# Altium schematic symbol library 3V3LDO_TPS73733DRV.SchLib: 1 symbol
Pins are listed as number, name and electrical type; pins without a type are passive.

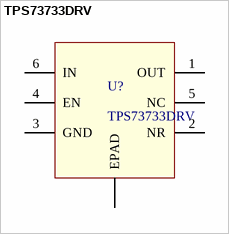
[diagram p0: symbol TPS73733DRV]

## TPS73733DRV
designator U?
IC REG LDO 3.3V 1A 6SON; Supplier 1: Digikey; Supplier Part Number 1: 296-40960-1-ND
footprint SON65P200X80_HS-7M (SON, 6-Leads, Body 2.00x2.00mm, Pitch 0.65mm, Thermal Pad 1.60x0.89mm, IPC Low Density)
pins: 1 OUT (power), 2 NR, 3 GND (power), 4 EN, 5 NC, 6 IN (power), 7 EPAD